# EAGLE library part ESP-WROOM-32 (library vinorodrigues-dev-brds)
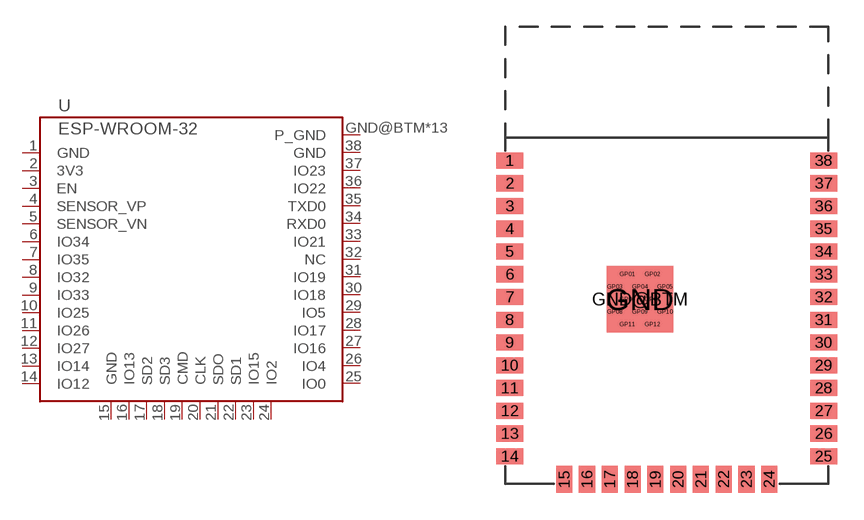
[diagram p8: symbol with the pads of ESP-WROOM-32; footprint ESP-WROOM-32]

Designator prefix U

## ESP-WROOM-32  [ESP-WROOM-32]
1  GND
2  3V3
3  EN
4  SENSOR_VP
5  SENSOR_VN
6  IO34
7  IO35
8  IO32
9  IO33
10  IO25
11  IO26
12  IO27
13  IO14
14  IO12
15  GND
16  IO13
17  SD2
18  SD3
19  CMD
20  CLK
21  SDO
22  SD1
23  IO15
24  IO2
25  IO0
26  IO4
27  IO16
28  IO17
29  IO5
30  IO18
31  IO19
32  NC  nc
33  IO21
34  RXD0
35  TXD0
36  IO22
37  IO23
38  GND
GND@BTM  P_GND
GP01  P_GND
GP02  P_GND
GP03  P_GND
GP04  P_GND
GP05  P_GND
GP06  P_GND
GP07  P_GND
GP08  P_GND
GP09  P_GND
GP10  P_GND
GP11  P_GND
GP12  P_GND

## Footprint ESP-WROOM-32 (pad centres in mm)
smd 1.5 x 0.9: 1 -7.25,7.75; 2 -7.25,6.48; 3 -7.25,5.21; 4 -7.25,3.94; 5 -7.25,2.67; 6 -7.25,1.4; 7 -7.25,0.13; 8 -7.25,-1.14; 9 -7.25,-2.41; 10 -7.25,-3.68; 11 -7.25,-4.95; 12 -7.25,-6.22; 13 -7.25,-7.49; 14 -7.25,-8.76; 25 10.25,-8.76; 26 10.25,-7.49; 27 10.25,-6.22; 28 10.25,-4.95; 29 10.25,-3.68; 30 10.25,-2.41; 31 10.25,-1.14; 32 10.25,0.13; 33 10.25,1.4; 34 10.25,2.67; 35 10.25,3.94; 36 10.25,5.21; 37 10.25,6.48; 38 10.25,7.75
smd 0.9 x 1.5: 15 -4.215,-10.04; 16 -2.945,-10.04; 17 -1.675,-10.04; 18 -0.405,-10.04; 19 0.865,-10.04; 20 2.135,-10.04; 21 3.405,-10.04; 22 4.675,-10.04; 23 5.945,-10.04; 24 7.215,-10.04
smd 3.7 x 3.7: GND 0,0
smd 3.7 x 3.7 bottom: GND@BTM 0,0
drill 0.2 pad 0.4: GP01 -0.7,1.4; GP02 0.7,1.4; GP03 -1.4,0.7; GP04 0,0.7; GP05 1.4,0.7; GP06 -0.7,0; GP07 0.7,0; GP08 -1.4,-0.7; GP09 0,-0.7; GP10 1.4,-0.7; GP11 -0.7,-1.4; GP12 0.7,-1.4